# Altium schematic symbol library Transistors.SchLib: 6 symbols
Pins are listed as number, name and electrical type; pins without a type are passive.

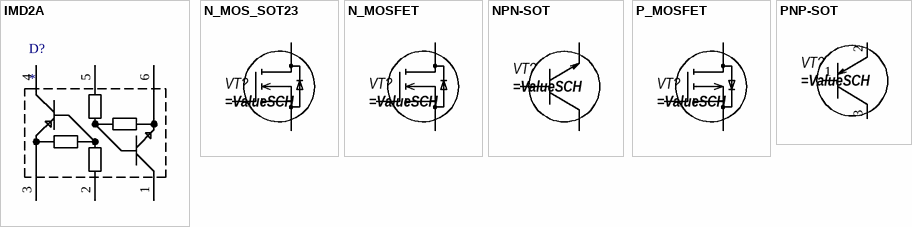
[diagram p0: symbols IMD2A to PNP-SOT]

## IMD2A
designator D?
pins: 1, 2, 3, 4, 5, 6

## N_MOS_SOT23
designator VT?
pins: 1 G, 2 S, 3 D

## N_MOSFET
designator VT?
pins: 1 G, 2 D, 3 S

## NPN-SOT
designator VT?
pins: 1 B, 2 E, 3 C

## P_MOSFET
designator VT?
footprint SO8 (SOIC, 8-Leads, Body 4,90x3,90mm, Pitch 1,27mm, IPC Medium Density)
pins: 1 G, 2 D, 3 S

## PNP-SOT
designator VT?
pins: 1 B, 2 E, 3 C